# Altium schematic symbol library OAK-SoM-MAX.SchLib: 3 symbols
Pins are listed as number, name and electrical type; pins without a type are passive.

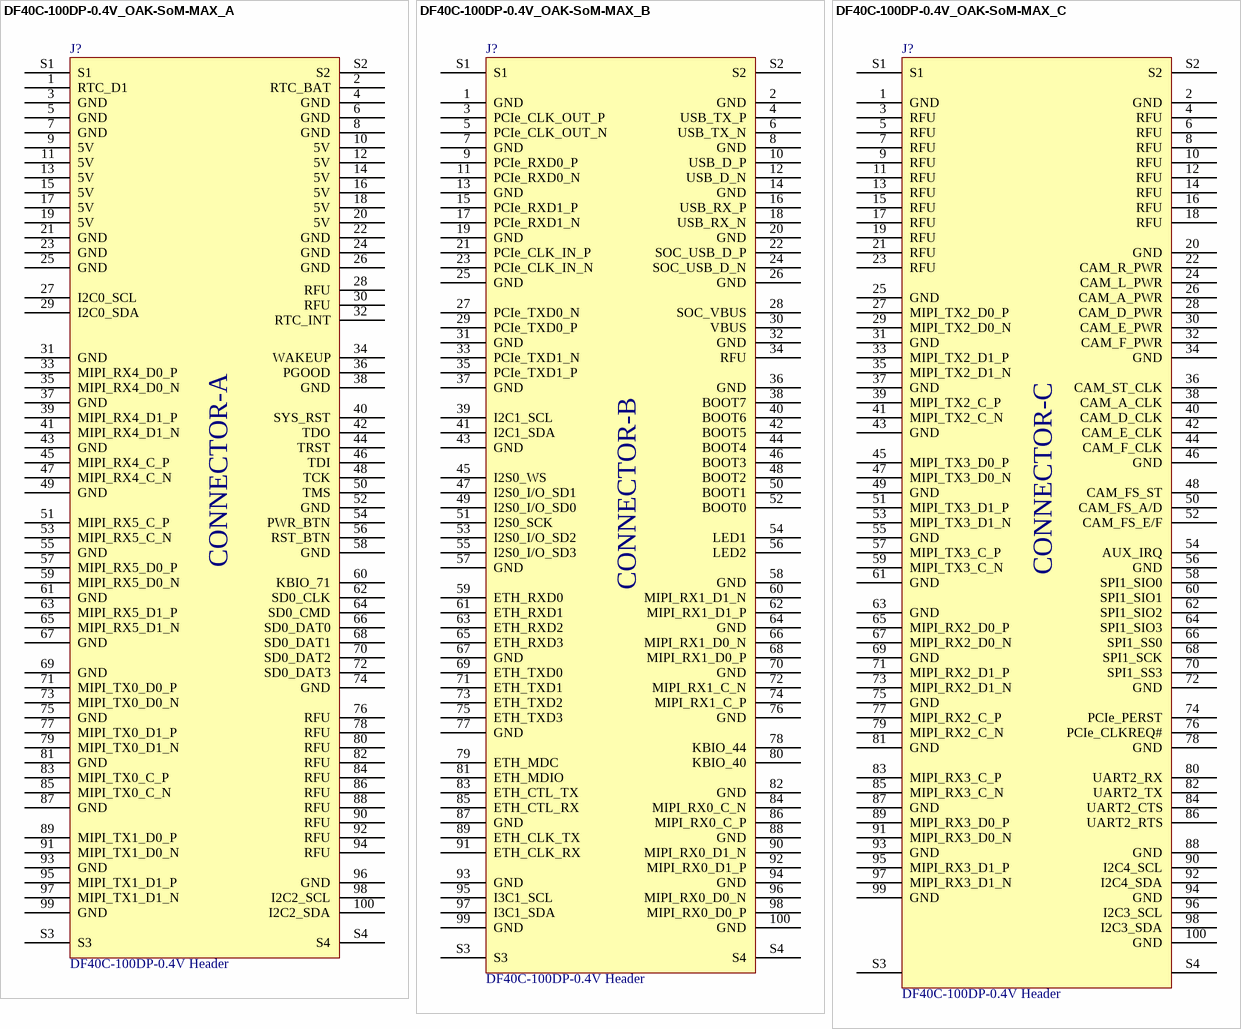
[diagram p0: symbols DF40C-100DP-0.4V_OAK-SoM-MAX_A to DF40C-100DP-0.4V_OAK-SoM-MAX_C]

## DF40C-100DP-0.4V_OAK-SoM-MAX_A
designator J?, comment DF40C-100DP-0.4V Header
CONN HDR 100POS 0.4MM SMD GOLD BW2099 SYMBOL; Manufacturer Part Number 1: DF40C-100DP-0.4V(51); mfg: Hirose; mated_height: 1.5mm; pin_current: 0.3A; Number of Contacts: 100; Voltage Rating: 30V; Current Rating: 300mA; Connector Type: Plug; Contact Resistance: 90mR; Gender: Male; Mated Stacking Heights: 4mm; pin_pitch: 0.4mm; mating_connector: DF40C-100DP-0.4V; mfg_pn: DF40C-100DP-0.4V; Supplier 1: Digi-Key; Manufacturer 1: Hirose; Stock 1: 10165; Pricing 1: 1=1.66000, 10=1.50900, 25=1.41680, 50=1.35520, 100=1.29360, 250=1.17040, 500=1.07800, 1000=0.92400 (USD); RoHS: Yes; Mount: Surface Mount; Contact Plating: Gold; Contact Material: Bronze; Housing Color: Black; Housing Material: Polymer; Min Operating Temperature: -35°C; Max Operating Temperature: 85°C; Number of Rows: 2; Termination: SMD/SMT; Package Quantity: 1; Packaging: Tape and Reel; Number of Positions: 100; Orientation: Straight; Max Current Rating: 300mA; Max Voltage Rating (AC): 30V; Length: 21.52mm; Pitch: 0.4mm; Depth: 1.85mm; Stack Height: 1.5mm; Radiation Hardening: No; REACH SVHC: Unknown; Lead Free: Lead Free; ComponentLink1URL: https://datasheet.ciiva.com/26948/getdatasheetpartid-434445-26948932.pdf?src-supplier=Verical; ComponentLink1Description: https://datasheet.ciiva.com/26948/getdatasheetpartid-434445-26948932.pdf?src-supplier=Verical; ComponentLink2URL: https://datasheet.ciiva.com/46408/1824826-46408893.pdf?src-supplier=Element14; ComponentLink2Description: https://datasheet.ciiva.com/46408/1824826-46408893.pdf?src-supplier=Element14; ComponentLink3URL: http://datasheet.octopart.com/DF40C-100DP-0.4V%2851%29-Hirose-datasheet-12512482.pdf?src-supplier=Newark; ComponentLink3Description: http://datasheet.octopart.com/DF40C-100DP-0.4V%2851%29-Hirose-datasheet-12512482.pdf?src-supplier=Newark; ComponentLink4URL: http://datasheet.octopart.com/DF40C-100DP-0.4V%2851%29-Hirose-datasheet-24967586.pdf?src-supplier=Element14; ComponentLink4Description: http://datasheet.octopart.com/DF40C-100DP-0.4V%2851%29-Hirose-datasheet-24967586.pdf?src-supplier=Element14; ComponentLink5URL: http://datasheet.octopart.com/DF40C-100DP-0.4V%2851%29-Hirose-datasheet-8329537.pdf?src-supplier=Factory+Futures; ComponentLink5Description: http://datasheet.octopart.com/DF40C-100DP-0.4V%2851%29-Hirose-datasheet-8329537.pdf?src-supplier=Factory+Futures; ComponentLink6URL: http://datasheet.octopart.com/DF40C-100DP-0.4V%2851%29-Hirose-datasheet-62290554.pdf?src-supplier=Future+Electronics; ComponentLink6Description: http://datasheet.octopart.com/DF40C-100DP-0.4V%2851%29-Hirose-datasheet-62290554.pdf?src-supplier=Future+Electronics; ComponentLink7URL: http://datasheet.octopart.com/DF40C-100DP-0.4V%2851%29-Hirose-datasheet-130255728.pdf?src-supplier=Future+Electronics; ComponentLink7Description: http://datasheet.octopart.com/DF40C-100DP-0.4V%2851%29-Hirose-datasheet-130255728.pdf?src-supplier=Future+Electronics; Supplier Part Number 1: H11614CT-ND; Supplier 2: Mouser; Supplier Part Number 2: 798-DF40C100DP0.4V51
footprint DF40C-100DP-0.4V_minpad (CONN HDR 100POS 0.4MM SMD GOLD)
pins: 1 RTC_D1, 2 RTC_BAT, 3 GND, 4 GND, 5 GND, 6 GND, 7 GND, 8 GND, 9 5V, 10 5V, 11 5V, 12 5V, 13 5V, 14 5V, 15 5V, 16 5V, 17 5V, 18 5V, 19 5V, 20 5V, 21 GND, 22 GND, 23 GND, 24 GND, 25 GND, 26 GND, 27 I2C0_SCL, 28 RFU, 29 I2C0_SDA, 30 RFU, 31 GND, 32 RTC_INT, 33 MIPI_RX4_D0_P, 34 WAKEUP, 35 MIPI_RX4_D0_N, 36 PGOOD, 37 GND, 38 GND, 39 MIPI_RX4_D1_P, 40 SYS_RST, 41 MIPI_RX4_D1_N, 42 TDO, 43 GND, 44 TRST, 45 MIPI_RX4_C_P, 46 TDI, 47 MIPI_RX4_C_N, 48 TCK, 49 GND, 50 TMS, 51 MIPI_RX5_C_P, 52 GND, 53 MIPI_RX5_C_N, 54 PWR_BTN, 55 GND, 56 RST_BTN, 57 MIPI_RX5_D0_P, 58 GND, 59 MIPI_RX5_D0_N, 60 KBIO_71, 61 GND, 62 SD0_CLK, 63 MIPI_RX5_D1_P, 64 SD0_CMD, 65 MIPI_RX5_D1_N, 66 SD0_DAT0, 67 GND, 68 SD0_DAT1, 69 GND, 70 SD0_DAT2, 71 MIPI_TX0_D0_P, 72 SD0_DAT3, 73 MIPI_TX0_D0_N, 74 GND, 75 GND, 76 RFU, 77 MIPI_TX0_D1_P, 78 RFU, 79 MIPI_TX0_D1_N, 80 RFU, 81 GND, 82 RFU, 83 MIPI_TX0_C_P, 84 RFU, 85 MIPI_TX0_C_N, 86 RFU, 87 GND, 88 RFU, 89 MIPI_TX1_D0_P, 90 RFU, 91 MIPI_TX1_D0_N, 92 RFU, 93 GND, 94 RFU, 95 MIPI_TX1_D1_P, 96 GND, 97 MIPI_TX1_D1_N, 98 I2C2_SCL, 99 GND, 100 I2C2_SDA, S1, S2, S3, S4
text: CONNECTOR-A

## DF40C-100DP-0.4V_OAK-SoM-MAX_B
designator J?, comment DF40C-100DP-0.4V Header
CONN HDR 100POS 0.4MM SMD GOLD BW2099 SYMBOL; Manufacturer Part Number 1: DF40C-100DP-0.4V(51); mfg: Hirose; mated_height: 1.5mm; pin_current: 0.3A; Number of Contacts: 100; Voltage Rating: 30V; Current Rating: 300mA; Connector Type: Plug; Contact Resistance: 90mR; Gender: Male; Mated Stacking Heights: 4mm; pin_pitch: 0.4mm; mating_connector: DF40C-100DP-0.4V; mfg_pn: DF40C-100DP-0.4V; Supplier 1: Digi-Key; Manufacturer 1: Hirose; Stock 1: 10165; Pricing 1: 1=1.66000, 10=1.50900, 25=1.41680, 50=1.35520, 100=1.29360, 250=1.17040, 500=1.07800, 1000=0.92400 (USD); RoHS: Yes; Mount: Surface Mount; Contact Plating: Gold; Contact Material: Bronze; Housing Color: Black; Housing Material: Polymer; Min Operating Temperature: -35°C; Max Operating Temperature: 85°C; Number of Rows: 2; Termination: SMD/SMT; Package Quantity: 1; Packaging: Tape and Reel; Number of Positions: 100; Orientation: Straight; Max Current Rating: 300mA; Max Voltage Rating (AC): 30V; Length: 21.52mm; Pitch: 0.4mm; Depth: 1.85mm; Stack Height: 1.5mm; Radiation Hardening: No; REACH SVHC: Unknown; Lead Free: Lead Free; ComponentLink1URL: https://datasheet.ciiva.com/26948/getdatasheetpartid-434445-26948932.pdf?src-supplier=Verical; ComponentLink1Description: https://datasheet.ciiva.com/26948/getdatasheetpartid-434445-26948932.pdf?src-supplier=Verical; ComponentLink2URL: https://datasheet.ciiva.com/46408/1824826-46408893.pdf?src-supplier=Element14; ComponentLink2Description: https://datasheet.ciiva.com/46408/1824826-46408893.pdf?src-supplier=Element14; ComponentLink3URL: http://datasheet.octopart.com/DF40C-100DP-0.4V%2851%29-Hirose-datasheet-12512482.pdf?src-supplier=Newark; ComponentLink3Description: http://datasheet.octopart.com/DF40C-100DP-0.4V%2851%29-Hirose-datasheet-12512482.pdf?src-supplier=Newark; ComponentLink4URL: http://datasheet.octopart.com/DF40C-100DP-0.4V%2851%29-Hirose-datasheet-24967586.pdf?src-supplier=Element14; ComponentLink4Description: http://datasheet.octopart.com/DF40C-100DP-0.4V%2851%29-Hirose-datasheet-24967586.pdf?src-supplier=Element14; ComponentLink5URL: http://datasheet.octopart.com/DF40C-100DP-0.4V%2851%29-Hirose-datasheet-8329537.pdf?src-supplier=Factory+Futures; ComponentLink5Description: http://datasheet.octopart.com/DF40C-100DP-0.4V%2851%29-Hirose-datasheet-8329537.pdf?src-supplier=Factory+Futures; ComponentLink6URL: http://datasheet.octopart.com/DF40C-100DP-0.4V%2851%29-Hirose-datasheet-62290554.pdf?src-supplier=Future+Electronics; ComponentLink6Description: http://datasheet.octopart.com/DF40C-100DP-0.4V%2851%29-Hirose-datasheet-62290554.pdf?src-supplier=Future+Electronics; ComponentLink7URL: http://datasheet.octopart.com/DF40C-100DP-0.4V%2851%29-Hirose-datasheet-130255728.pdf?src-supplier=Future+Electronics; ComponentLink7Description: http://datasheet.octopart.com/DF40C-100DP-0.4V%2851%29-Hirose-datasheet-130255728.pdf?src-supplier=Future+Electronics; Supplier Part Number 1: H11614CT-ND; Supplier 2: Mouser; Supplier Part Number 2: 798-DF40C100DP0.4V51
footprint DF40C-100DP-0.4V_minpad (CONN HDR 100POS 0.4MM SMD GOLD)
pins: 1 GND, 2 GND, 3 PCIe_CLK_OUT_P, 4 USB_TX_P, 5 PCIe_CLK_OUT_N, 6 USB_TX_N, 7 GND, 8 GND, 9 PCIe_RXD0_P, 10 USB_D_P, 11 PCIe_RXD0_N, 12 USB_D_N, 13 GND, 14 GND, 15 PCIe_RXD1_P, 16 USB_RX_P, 17 PCIe_RXD1_N, 18 USB_RX_N, 19 GND, 20 GND, 21 PCIe_CLK_IN_P, 22 SOC_USB_D_P, 23 PCIe_CLK_IN_N, 24 SOC_USB_D_N, 25 GND, 26 GND, 27 PCIe_TXD0_N, 28 SOC_VBUS, 29 PCIe_TXD0_P, 30 VBUS, 31 GND, 32 GND, 33 PCIe_TXD1_N, 34 RFU, 35 PCIe_TXD1_P, 36 GND, 37 GND, 38 BOOT7, 39 I2C1_SCL, 40 BOOT6, 41 I2C1_SDA, 42 BOOT5, 43 GND, 44 BOOT4, 45 I2S0_WS, 46 BOOT3, 47 I2S0_I/O_SD1, 48 BOOT2, 49 I2S0_I/O_SD0, 50 BOOT1, 51 I2S0_SCK, 52 BOOT0, 53 I2S0_I/O_SD2, 54 LED1, 55 I2S0_I/O_SD3, 56 LED2, 57 GND, 58 GND, 59 ETH_RXD0, 60 MIPI_RX1_D1_N, 61 ETH_RXD1, 62 MIPI_RX1_D1_P, 63 ETH_RXD2, 64 GND, 65 ETH_RXD3, 66 MIPI_RX1_D0_N, 67 GND, 68 MIPI_RX1_D0_P, 69 ETH_TXD0, 70 GND, 71 ETH_TXD1, 72 MIPI_RX1_C_N, 73 ETH_TXD2, 74 MIPI_RX1_C_P, 75 ETH_TXD3, 76 GND, 77 GND, 78 KBIO_44, 79 ETH_MDC, 80 KBIO_40, 81 ETH_MDIO, 82 GND, 83 ETH_CTL_TX, 84 MIPI_RX0_C_N, 85 ETH_CTL_RX, 86 MIPI_RX0_C_P, 87 GND, 88 GND, 89 ETH_CLK_TX, 90 MIPI_RX0_D1_N, 91 ETH_CLK_RX, 92 MIPI_RX0_D1_P, 93 GND, 94 GND, 95 I3C1_SCL, 96 MIPI_RX0_D0_N, 97 I3C1_SDA, 98 MIPI_RX0_D0_P, 99 GND, 100 GND, S1, S2, S3, S4
text: CONNECTOR-B

## DF40C-100DP-0.4V_OAK-SoM-MAX_C
designator J?, comment DF40C-100DP-0.4V Header
CONN HDR 100POS 0.4MM SMD GOLD BW2099 SYMBOL; Manufacturer Part Number 1: DF40C-100DP-0.4V(51); mfg: Hirose; mated_height: 1.5mm; pin_current: 0.3A; Number of Contacts: 100; Voltage Rating: 30V; Current Rating: 300mA; Connector Type: Plug; Contact Resistance: 90mR; Gender: Male; Mated Stacking Heights: 4mm; pin_pitch: 0.4mm; mating_connector: DF40C-100DP-0.4V; mfg_pn: DF40C-100DP-0.4V; Supplier 1: Digi-Key; Manufacturer 1: Hirose; Stock 1: 10165; Pricing 1: 1=1.66000, 10=1.50900, 25=1.41680, 50=1.35520, 100=1.29360, 250=1.17040, 500=1.07800, 1000=0.92400 (USD); RoHS: Yes; Mount: Surface Mount; Contact Plating: Gold; Contact Material: Bronze; Housing Color: Black; Housing Material: Polymer; Min Operating Temperature: -35°C; Max Operating Temperature: 85°C; Number of Rows: 2; Termination: SMD/SMT; Package Quantity: 1; Packaging: Tape and Reel; Number of Positions: 100; Orientation: Straight; Max Current Rating: 300mA; Max Voltage Rating (AC): 30V; Length: 21.52mm; Pitch: 0.4mm; Depth: 1.85mm; Stack Height: 1.5mm; Radiation Hardening: No; REACH SVHC: Unknown; Lead Free: Lead Free; ComponentLink1URL: https://datasheet.ciiva.com/26948/getdatasheetpartid-434445-26948932.pdf?src-supplier=Verical; ComponentLink1Description: https://datasheet.ciiva.com/26948/getdatasheetpartid-434445-26948932.pdf?src-supplier=Verical; ComponentLink2URL: https://datasheet.ciiva.com/46408/1824826-46408893.pdf?src-supplier=Element14; ComponentLink2Description: https://datasheet.ciiva.com/46408/1824826-46408893.pdf?src-supplier=Element14; ComponentLink3URL: http://datasheet.octopart.com/DF40C-100DP-0.4V%2851%29-Hirose-datasheet-12512482.pdf?src-supplier=Newark; ComponentLink3Description: http://datasheet.octopart.com/DF40C-100DP-0.4V%2851%29-Hirose-datasheet-12512482.pdf?src-supplier=Newark; ComponentLink4URL: http://datasheet.octopart.com/DF40C-100DP-0.4V%2851%29-Hirose-datasheet-24967586.pdf?src-supplier=Element14; ComponentLink4Description: http://datasheet.octopart.com/DF40C-100DP-0.4V%2851%29-Hirose-datasheet-24967586.pdf?src-supplier=Element14; ComponentLink5URL: http://datasheet.octopart.com/DF40C-100DP-0.4V%2851%29-Hirose-datasheet-8329537.pdf?src-supplier=Factory+Futures; ComponentLink5Description: http://datasheet.octopart.com/DF40C-100DP-0.4V%2851%29-Hirose-datasheet-8329537.pdf?src-supplier=Factory+Futures; ComponentLink6URL: http://datasheet.octopart.com/DF40C-100DP-0.4V%2851%29-Hirose-datasheet-62290554.pdf?src-supplier=Future+Electronics; ComponentLink6Description: http://datasheet.octopart.com/DF40C-100DP-0.4V%2851%29-Hirose-datasheet-62290554.pdf?src-supplier=Future+Electronics; ComponentLink7URL: http://datasheet.octopart.com/DF40C-100DP-0.4V%2851%29-Hirose-datasheet-130255728.pdf?src-supplier=Future+Electronics; ComponentLink7Description: http://datasheet.octopart.com/DF40C-100DP-0.4V%2851%29-Hirose-datasheet-130255728.pdf?src-supplier=Future+Electronics; Supplier Part Number 1: H11614CT-ND; Supplier 2: Mouser; Supplier Part Number 2: 798-DF40C100DP0.4V51
footprint DF40C-100DP-0.4V_minpad (CONN HDR 100POS 0.4MM SMD GOLD)
pins: 1 GND, 2 GND, 3 RFU, 4 RFU, 5 RFU, 6 RFU, 7 RFU, 8 RFU, 9 RFU, 10 RFU, 11 RFU, 12 RFU, 13 RFU, 14 RFU, 15 RFU, 16 RFU, 17 RFU, 18 RFU, 19 RFU, 20 GND, 21 RFU, 22 CAM_R_PWR, 23 RFU, 24 CAM_L_PWR, 25 GND, 26 CAM_A_PWR, 27 MIPI_TX2_D0_P, 28 CAM_D_PWR, 29 MIPI_TX2_D0_N, 30 CAM_E_PWR, 31 GND, 32 CAM_F_PWR, 33 MIPI_TX2_D1_P, 34 GND, 35 MIPI_TX2_D1_N, 36 CAM_ST_CLK, 37 GND, 38 CAM_A_CLK, 39 MIPI_TX2_C_P, 40 CAM_D_CLK, 41 MIPI_TX2_C_N, 42 CAM_E_CLK, 43 GND, 44 CAM_F_CLK, 45 MIPI_TX3_D0_P, 46 GND, 47 MIPI_TX3_D0_N, 48 CAM_FS_ST, 49 GND, 50 CAM_FS_A/D, 51 MIPI_TX3_D1_P, 52 CAM_FS_E/F, 53 MIPI_TX3_D1_N, 54 AUX_IRQ, 55 GND, 56 GND, 57 MIPI_TX3_C_P, 58 SPI1_SIO0, 59 MIPI_TX3_C_N, 60 SPI1_SIO1, 61 GND, 62 SPI1_SIO2, 63 GND, 64 SPI1_SIO3, 65 MIPI_RX2_D0_P, 66 SPI1_SS0, 67 MIPI_RX2_D0_N, 68 SPI1_SCK, 69 GND, 70 SPI1_SS3, 71 MIPI_RX2_D1_P, 72 GND, 73 MIPI_RX2_D1_N, 74 PCIe_PERST, 75 GND, 76 PCIe_CLKREQ#, 77 MIPI_RX2_C_P, 78 GND, 79 MIPI_RX2_C_N, 80 UART2_RX, 81 GND, 82 UART2_TX, 83 MIPI_RX3_C_P, 84 UART2_CTS, 85 MIPI_RX3_C_N, 86 UART2_RTS, 87 GND, 88 GND, 89 MIPI_RX3_D0_P, 90 I2C4_SCL, 91 MIPI_RX3_D0_N, 92 I2C4_SDA, 93 GND, 94 GND, 95 MIPI_RX3_D1_P, 96 I2C3_SCL, 97 MIPI_RX3_D1_N, 98 I2C3_SDA, 99 GND, 100 GND, S1, S2, S3, S4
text: CONNECTOR-C